# EAGLE library part MICRO-USB-RECEPTACLE (library con-molex-usb)
MICRO USB RECEPTACLES Micro-USB Receptacles, SMT, Lead-Free from MOLEX <http://www.molex.com/>. (C) 2014 Tomasz Boleslaw CEDRO, cederom@tlen.pl, http://www.tomek.cedro.info. Version 0.1 (2014-01-17): Initial release. Version 0.2 (2014-02-06): Updated 47589-0001 footprint pins/pads/milling. Following devices are included: 1. 47589-0001 Micro-USB AB Receptacle, Bottom Mount, SMT, Lead-Free <http://www.molex.com/molex/products/datasheet.jsp?part=active/0475890001_IO_CONNECTORS.xml> (Technical Drawing <http://www.molex.com/pdm_docs/sd/475890001_sd.pdf>).
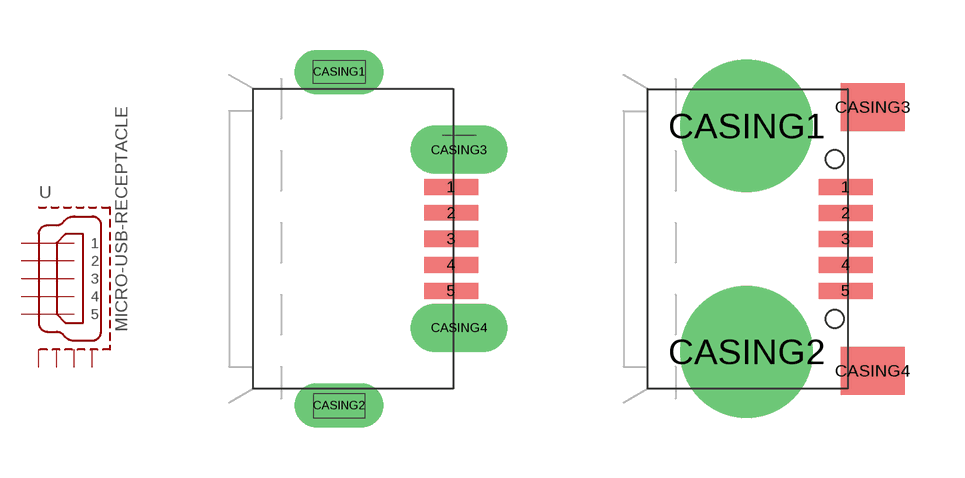
[diagram p0: symbol with the pads of 47589-0001; footprints 47589-0001, 47589-0002]

Designator prefix -

## MICRO-USB-RECEPTACLE47589-0001  [47589-0001]
1  1  in
2  2  in
3  3  in
4  4  in
5  5  in
CASING1  GND1
CASING2  GND2
CASING3  GND3
CASING4  GND4

## MICRO-USB-RECEPTACLE  [47589-0002]
Pads as for 47589-0001

## Footprint 47589-0001 (pad centres in mm)
MICRO USB RECEPTACLES Micro-USB Receptacles, SMT, Lead-Free from MOLEX <http://www.molex.com/>. (C) 2014 Tomasz Boleslaw CEDRO, cederom@tlen.pl, http://www.tomek.cedro.info. Version 0.1 (2014-01-17): Initial release. Version 0.2 (2014-02-06): Updated 47589-0001 footprint pins/pads/milling. Following devices are included: 1. 47589-0001 Micro-USB AB Receptacle, Bottom Mount, SMT, Lead-Free <http://www.molex.com/molex/products/datasheet.jsp?part=active/0475890001_IO_CONNECTORS.xml> (Technical Drawing <http://www.molex.com/pdm_docs/sd/475890001_sd.pdf>).
smd 1.35 x 0.4: 1 2.8,1.3; 2 2.8,0.65; 3 2.8,0; 4 2.8,-0.65; 5 2.8,-1.3
drill 0.6 pad 0.95 long: CASING1 0,4.175; CASING2 0,-4.175
drill 0.7 pad 1.1 long: CASING3 3,2.225; CASING4 3,-2.225

## Footprint 47589-0002 (pad centres in mm)
MICRO USB RECEPTACLES Micro-USB Receptacles, SMT, Lead-Free from MOLEX <http://www.molex.com/>. (C) 2014 Tomasz Boleslaw CEDRO, cederom@tlen.pl, http://www.tomek.cedro.info. Version 0.1 (2014-01-17): Initial release. Version 0.2 (2014-02-06): Updated 47589-0001 footprint pins/pads/milling. Following devices are included: 1. 47589-0001 Micro-USB AB Receptacle, Bottom Mount, SMT, Lead-Free <http://www.molex.com/molex/products/datasheet.jsp?part=active/0475890001_IO_CONNECTORS.xml> (Technical Drawing <http://www.molex.com/pdm_docs/sd/475890001_sd.pdf>).
smd 1.35 x 0.4: 1 2.8,1.3; 2 2.8,0.65; 3 2.8,0; 4 2.8,-0.65; 5 2.8,-1.3
drill 1.2 pad 3.302: CASING1 0.325,2.825; CASING2 0.325,-2.825
smd 1.6 x 1.2: CASING3 3.475,3.3; CASING4 3.475,-3.3
hole 0.45 at 2.525,2
hole 0.45 at 2.525,-2